# Altium footprint library Common-Parts-Library.PcbLib: 530 footprints (part 29 of 34)
Each footprint in its own frame and in the unit in brackets; x right, y up, seen from the top. Pads: shape width x height; smd on the part's side, far side on the other; paste and mask are expansions set on the pad; w line width, h text height; cw(c..) or ccw(c..) is an arc to the next point about the centre after c.
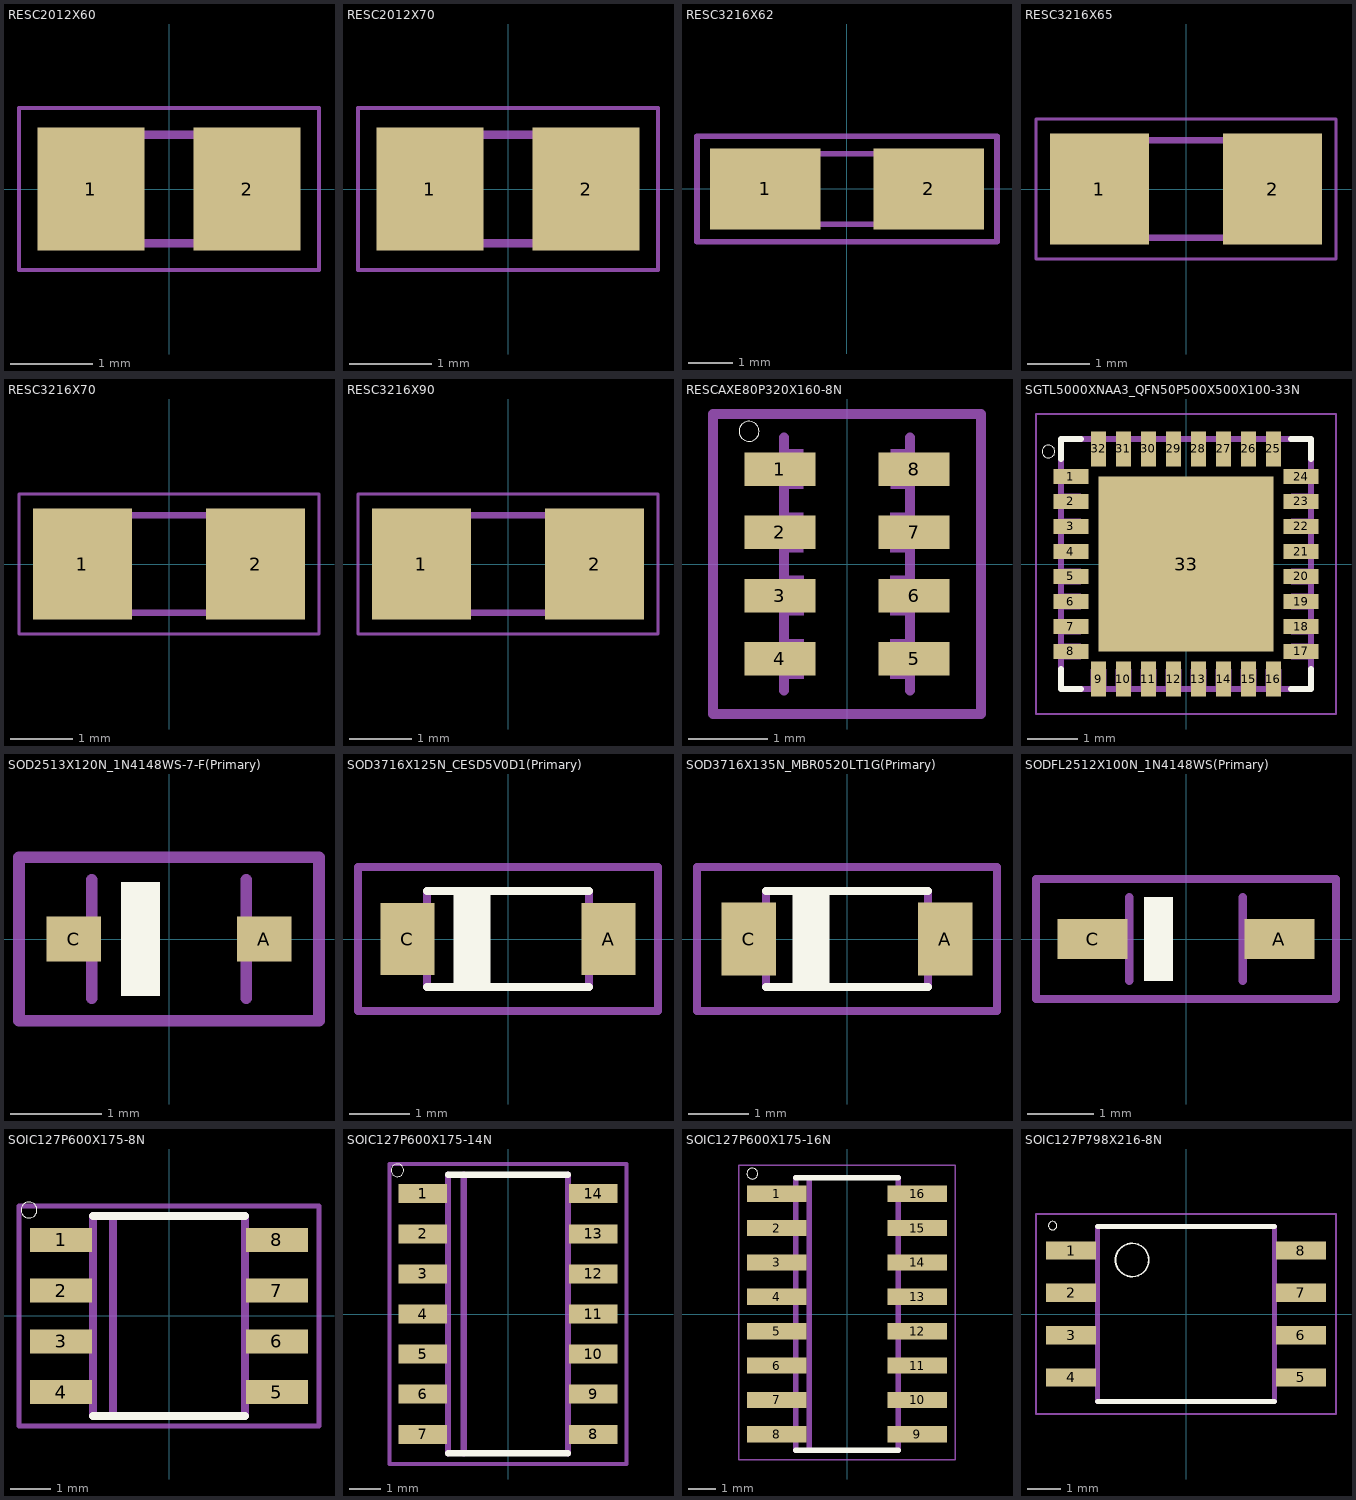
[diagram p28: the footprints below, top view; thin cyan lines are the x and y axes]

## RESC2012X60 [mm]
pads (2):
  rect 1.3x1.5 smd: 1(-0.95,0) 2(0.95,0)
Mechanical 1:
  region: 0.356,0.726 1.106,0.726 1.106,-0.725 0.356,-0.725
  region: -1.096,0.726 -0.342,0.726 -0.342,-0.726 -1.096,-0.726
  lines w0.051: -1.823,-0.983 -1.823,0.983 1.823,0.983 1.823,-0.983 -1.823,-0.983
  lines w0.102: -0.381,0.66 0.381,0.66 ; -0.356,-0.66 0.381,-0.66

## RESC2012X70 [mm]
pads (2):
  rect 1.3x1.5 smd: 1(-0.95,0) 2(0.95,0)
Mechanical 1:
  region: 0.356,0.726 1.106,0.726 1.106,-0.724 0.356,-0.724
  region: -1.096,0.726 -0.342,0.726 -0.342,-0.726 -1.096,-0.726
  lines w0.051: -1.823,-0.983 -1.823,0.983 1.823,0.983 1.823,-0.983 -1.823,-0.983
  lines w0.102: -0.381,0.66 0.381,0.66 ; -0.356,-0.66 0.381,-0.66

## RESC3216X62 [mm]
pads (2):
  rect 2.5x1.84 smd: 1(-1.85,0) 2(1.85,0)
Mechanical 1:
  region: 1.101,0.8 1.6,0.8 1.6,-0.801 1.101,-0.801
  region: -1.603,0.8 -1.1,0.8 -1.1,-0.802 -1.603,-0.802
  lines w0.127: -3.4,-1.2 -3.4,1.2 3.4,1.2 3.4,-1.2 -3.4,-1.2 ; -1.6,-0.8 -1.6,0.8 1.6,0.8 1.6,-0.8 -1.6,-0.8

## RESC3216X65 [mm]
pads (2):
  rect 1.6x1.8 smd: 1(-1.4,0) 2(1.4,0)
Mechanical 1:
  lines w0.051: -2.423,-1.133 -2.423,1.133 2.423,1.133 2.423,-1.133 -2.423,-1.133
  lines w0.102: -0.965,-0.787 0.965,-0.787 ; -0.965,0.787 0.965,0.787

## RESC3216X70 [mm]
pads (2):
  rect 1.6x1.8 smd: 1(-1.4,0) 2(1.4,0)
Mechanical 1:
  lines w0.051: -2.423,-1.133 -2.423,1.133 2.423,1.133 2.423,-1.133 -2.423,-1.133
  lines w0.102: -0.965,-0.787 0.965,-0.787 ; -0.965,0.787 0.965,0.787

## RESC3216X90 [mm]
pads (2):
  rect 1.6x1.8 smd: 1(-1.4,0) 2(1.4,0)
Mechanical 1:
  lines w0.051: -2.423,-1.133 -2.423,1.133 2.423,1.133 2.423,-1.133 -2.423,-1.133
  lines w0.102: -0.965,-0.787 0.965,-0.787 ; -0.965,0.787 0.965,0.787

## RESCAXE80P320X160-8N [mm]
pads (8):
  rect 0.9x0.425 smd: 1(-0.85,1.2) 2(-0.85,0.4) 3(-0.85,-0.4) 4(-0.85,-1.2) 5(0.85,-1.2) 6(0.85,-0.4) 7(0.85,0.4) 8(0.85,1.2)
Top Overlay:
  circle w0: c-1.24,1.68 r0.127
Mechanical 1:
  region: 0.552,0.952 0.552,1.451 0.849,1.451 0.849,0.952
  region: 0.551,0.151 0.551,0.65 0.85,0.65 0.85,0.151
  region: 0.55,-0.65 0.55,-0.152 0.852,-0.152 0.852,-0.65
  region: 0.549,-1.451 0.549,-0.951 0.851,-0.951 0.851,-1.451
  region: -0.55,-0.95 -0.55,-1.451 -0.851,-1.451 -0.851,-0.95
  region: -0.55,-0.15 -0.55,-0.652 -0.852,-0.652 -0.852,-0.15
  region: -0.552,0.652 -0.552,0.149 -0.851,0.149 -0.851,0.652
  region: -0.553,1.453 -0.553,0.95 -0.85,0.95 -0.85,1.453
  lines w0.127: -0.8,-1.6 -0.8,1.6 ; 0.8,-1.6 0.8,1.6 ; -1.7,-1.9 1.7,-1.9 1.7,1.9 -1.7,1.9 -1.7,-1.9

## SGTL5000XNAA3_QFN50P500X500X100-33N [mm]
pads (33):
  rect 0.7x0.3 smd: 1(-2.3,1.75) 2(-2.3,1.25) 3(-2.3,0.75) 4(-2.3,0.25) 5(-2.3,-0.25) 6(-2.3,-0.75) 7(-2.3,-1.25) 8(-2.3,-1.75) 17(2.3,-1.75) 18(2.3,-1.25) 19(2.3,-0.75) 20(2.3,-0.25) 21(2.3,0.25) 22(2.3,0.75) 23(2.3,1.25) 24(2.3,1.75)
  rect 0.3x0.7 smd: 9(-1.75,-2.3) 10(-1.25,-2.3) 11(-0.75,-2.3) 12(-0.25,-2.3) 13(0.25,-2.3) 14(0.75,-2.3) 15(1.25,-2.3) 16(1.75,-2.3) 25(1.75,2.3) 26(1.25,2.3) 27(0.75,2.3) 28(0.25,2.3) 29(-0.25,2.3) 30(-0.75,2.3) 31(-1.25,2.3) 32(-1.75,2.3)
  rect 3.5x3.5 smd: 33(0,0)
Top Overlay:
  circle w0: c-2.75,2.25 r0.127
  lines w0.127: -2.5,-2.1 -2.5,-2.5 -2.1,-2.5 ; -2.5,2.1 -2.5,2.5 -2.1,2.5 ; 2.1,-2.5 2.5,-2.5 2.5,-2.1 ; 2.1,2.5 2.5,2.5 2.5,2.1
Top Paste:
  region: -1.103,1.1 1.1,1.1 1.1,-1.103 -1.103,-1.103
Top Solder:
  region: -1.95,1.9 -1.95,2.704 -1.554,2.704 -1.554,1.9
  region: -1.449,1.901 -1.449,2.704 -1.054,2.704 -1.054,1.901
  region: -0.948,1.902 -0.948,2.706 -0.556,2.706 -0.556,1.902
  region: -0.449,1.901 -0.449,2.702 -0.052,2.702 -0.052,1.901
  region: 0.051,1.901 0.051,2.701 0.449,2.701 0.449,1.901
  region: 0.552,1.902 0.552,2.702 0.948,2.702 0.948,1.902
  region: 1.053,1.903 1.053,2.701 1.449,2.701 1.449,1.903
  region: 1.553,1.903 1.553,2.701 1.949,2.701 1.949,1.903
  region: 1.905,1.95 2.7,1.95 2.7,1.554 1.905,1.554
  region: 1.904,1.45 2.7,1.45 2.7,1.052 1.904,1.052
  region: 1.904,0.95 2.7,0.95 2.7,0.551 1.904,0.551
  region: 1.903,0.45 2.7,0.45 2.7,0.05 1.903,0.05
  region: 1.903,-0.05 2.7,-0.05 2.7,-0.451 1.903,-0.451
  region: 1.904,-0.55 2.7,-0.55 2.7,-0.952 1.904,-0.952
  region: 1.903,-1.05 2.7,-1.05 2.7,-1.452 1.903,-1.452
  region: 1.906,-1.55 2.7,-1.55 2.7,-1.956 1.906,-1.956
  region: -1.953,-2.703 -1.953,-1.9 -1.55,-1.9 -1.55,-2.703
  region: -1.453,-2.703 -1.453,-1.901 -1.049,-1.901 -1.049,-2.703
  region: -0.955,-2.705 -0.955,-1.902 -0.548,-1.902 -0.548,-2.705
  region: -0.45,-2.7 -0.45,-1.9 -0.05,-1.9 -0.05,-2.7
  region: 0.049,-2.701 0.049,-1.901 0.451,-1.901 0.451,-2.701
  region: 0.546,-2.704 0.546,-1.905 0.955,-1.905 0.955,-2.704
  region: 1.049,-2.701 1.049,-1.902 1.452,-1.902 1.452,-2.701
  region: 1.549,-2.701 1.549,-1.903 1.953,-1.903 1.953,-2.701
  region: -2.704,1.95 -1.9,1.95 -1.9,1.552 -2.704,1.552
  region: -2.708,1.45 -1.9,1.45 -1.9,1.053 -2.708,1.053
  region: -2.707,0.95 -1.9,0.95 -1.9,0.551 -2.707,0.551
  region: -2.702,0.45 -1.9,0.45 -1.9,0.05 -2.702,0.05
  region: -2.702,-0.05 -1.9,-0.05 -1.9,-0.45 -2.702,-0.45
  region: -2.708,-0.55 -1.9,-0.55 -1.9,-0.953 -2.708,-0.953
  region: -2.709,-1.05 -1.9,-1.05 -1.9,-1.455 -2.709,-1.455
  region: -2.703,-1.55 -1.9,-1.55 -1.9,-1.952 -2.703,-1.952
Mechanical 1:
  region: 1.603,2.103 1.603,2.5 1.9,2.5 1.9,2.103
  region: 1.103,2.103 1.103,2.501 1.399,2.501 1.399,2.103
  region: 0.604,2.104 0.604,2.502 0.898,2.502 0.898,2.104
  region: 0.102,2.102 0.102,2.502 0.398,2.502 0.398,2.102
  region: -0.399,2.101 -0.399,2.502 -0.102,2.502 -0.102,2.101
  region: -0.898,2.102 -0.898,2.506 -0.606,2.506 -0.606,2.102
  region: -1.399,2.101 -1.399,2.505 -1.105,2.505 -1.105,2.101
  region: -1.9,2.1 -1.9,2.503 -1.603,2.503 -1.603,2.1
  region: 2.104,-1.6 2.5,-1.6 2.5,-1.904 2.104,-1.904
  region: 2.106,-1.1 2.5,-1.1 2.5,-1.404 2.106,-1.404
  region: 2.104,-0.6 2.5,-0.6 2.5,-0.902 2.104,-0.902
  region: 2.102,-0.1 2.5,-0.1 2.5,-0.4 2.102,-0.4
  region: 2.103,0.4 2.5,0.4 2.5,0.1 2.103,0.1
  region: 2.104,0.9 2.5,0.9 2.5,0.601 2.104,0.601
  region: 2.105,1.4 2.5,1.4 2.5,1.102 2.105,1.102
  region: 2.104,1.9 2.5,1.9 2.5,1.603 2.104,1.603
  region: 1.598,-2.502 1.598,-2.107 1.907,-2.107 1.907,-2.502
  region: 1.098,-2.502 1.098,-2.104 1.404,-2.104 1.404,-2.502
  region: 0.598,-2.502 0.598,-2.104 0.904,-2.104 0.904,-2.502
  region: 0.096,-2.504 0.096,-2.104 0.404,-2.104 0.404,-2.504
  region: -0.403,-2.503 -0.403,-2.102 -0.098,-2.102 -0.098,-2.503
  region: -0.902,-2.502 -0.902,-2.101 -0.599,-2.101 -0.599,-2.502
  region: -1.406,-2.506 -1.406,-2.102 -1.098,-2.102 -1.098,-2.506
  region: -1.905,-2.505 -1.905,-2.101 -1.599,-2.101 -1.599,-2.505
  region: -2.506,-1.6 -2.1,-1.6 -2.1,-1.905 -2.506,-1.905
  region: -2.503,-1.1 -2.1,-1.1 -2.1,-1.402 -2.503,-1.402
  region: -2.502,-0.6 -2.1,-0.6 -2.1,-0.901 -2.502,-0.901
  region: -2.503,-0.1 -2.1,-0.1 -2.1,-0.4 -2.503,-0.4
  region: -2.505,0.4 -2.1,0.4 -2.1,0.1 -2.505,0.1
  region: -2.508,0.9 -2.1,0.9 -2.1,0.602 -2.508,0.602
  region: -2.502,1.4 -2.1,1.4 -2.1,1.101 -2.502,1.101
  region: -2.503,1.9 -2.1,1.9 -2.1,1.602 -2.503,1.602
  lines w0.05: -3,-3 -3,3 3,3 3,-3 -3,-3
  lines w0.127: -2.499,-2.149 -2.499,2.151 ; -2.149,-2.499 2.151,-2.499 ; -2.149,2.501 2.151,2.501 ; 2.501,-2.149 2.501,2.151

## SOD2513X120N_1N4148WS-7-F(Primary) [mm]
pads (2):
  rect 0.6x0.5 smd: A(1.05,0) C(-1.05,0)
Top Overlay:
  region: -0.526,0.625 -0.1,0.625 -0.1,-0.626 -0.526,-0.626
Mechanical 1:
  lines w0.127: -0.85,-0.65 -0.85,0.65 ; 0.85,-0.65 0.85,0.65 ; -1.65,-0.9 1.65,-0.9 1.65,0.9 -1.65,0.9 -1.65,-0.9

## SOD3716X125N_CESD5V0D1(Primary) [mm]
pads (2):
  rect 0.9x1.2 smd: A(1.675,0) C(-1.675,0)
Top Overlay:
  region: -0.903,0.8 -0.3,0.8 -0.3,-0.803 -0.903,-0.803
  lines w0.127: -1.35,-0.8 1.35,-0.8 ; -1.35,0.8 1.35,0.8
Mechanical 1:
  lines w0.127: -1.35,-0.8 -1.35,0.8 ; 1.35,-0.8 1.35,0.8 ; -2.5,-1.2 2.5,-1.2 2.5,1.2 -2.5,1.2 -2.5,-1.2

## SOD3716X135N_MBR0520LT1G(Primary) [mm]
pads (2):
  rect 0.91x1.22 smd: A(1.635,0) C(-1.635,0)
Top Overlay:
  region: -0.901,0.8 -0.3,0.8 -0.3,-0.801 -0.901,-0.801
  lines w0.127: -1.35,-0.8 1.35,-0.8 ; -1.35,0.8 1.35,0.8
Mechanical 1:
  lines w0.127: -1.35,-0.8 -1.35,0.8 ; 1.35,-0.8 1.35,0.8 ; -2.5,-1.2 2.5,-1.2 2.5,1.2 -2.5,1.2 -2.5,-1.2

## SODFL2512X100N_1N4148WS(Primary) [mm]
pads (2):
  rect 1.05x0.6 smd: A(1.4,0) C(-1.4,0)
Top Overlay:
  region: -0.625,0.625 -0.2,0.625 -0.2,-0.625 -0.625,-0.625
Mechanical 1:
  lines w0.127: -0.85,-0.625 -0.85,0.625 ; 0.85,-0.625 0.85,0.625 ; -2.25,-0.9 2.25,-0.9 2.25,0.9 -2.25,0.9 -2.25,-0.9

## SOIC127P600X175-8N [mm]
pads (8):
  rect 1.55x0.6 smd: 1(-2.7,1.905) 2(-2.7,0.635) 3(-2.7,-0.635) 4(-2.7,-1.905) 5(2.7,-1.905) 6(2.7,-0.635) 7(2.7,0.635) 8(2.7,1.905)
Top Overlay:
  circle w0: c-3.5,2.65 r0.2
  lines w0.203: -1.9,-2.5 1.9,-2.5 ; -1.9,2.5 1.9,2.5
Mechanical 1:
  region: 3.101,2.149 3.101,1.665 2.005,1.665 2.005,2.149
  region: 3.102,0.878 3.102,0.392 2.002,0.392 2.002,0.878
  region: 3.104,-0.393 3.104,-0.879 2.001,-0.879 2.001,-0.393
  region: 3.105,-1.665 3.105,-2.15 2,-2.15 2,-1.665
  region: -2,-1.66 -2,-2.156 -3.106,-2.156 -3.106,-1.66
  region: -2.001,-0.389 -2.001,-0.884 -3.104,-0.884 -3.104,-0.389
  region: -2.003,0.883 -2.003,0.387 -3.103,0.387 -3.103,0.883
  region: -2.001,2.151 -2.001,1.659 -3.101,1.659 -3.101,2.151
  lines w0.127: -3.75,-2.75 -3.75,2.75 3.75,2.75 3.75,-2.75 -3.75,-2.75
  lines w0.203: -1.9,-2.5 -1.9,2.5 ; -1.4,-2.5 -1.4,2.5 ; 1.9,-2.5 1.9,2.5

## SOIC127P600X175-14N [mm]
pads (14):
  rect 1.55x0.6 smd: 1(-2.7,3.81) 2(-2.7,2.54) 3(-2.7,1.27) 4(-2.7,0) 5(-2.7,-1.27) 6(-2.7,-2.54) 7(-2.7,-3.81) 8(2.7,-3.81) 9(2.7,-2.54) 10(2.7,-1.27) 11(2.7,0) 12(2.7,1.27) 13(2.7,2.54) 14(2.7,3.81)
Top Overlay:
  circle w0: c-3.5,4.55 r0.2
  lines w0.203: -1.9,-4.405 1.9,-4.405 ; -1.9,4.405 1.9,4.405
Mechanical 1:
  region: 3.103,-1.027 3.103,-1.515 2,-1.515 2,-1.027
  region: 3.102,-2.297 3.102,-2.785 2,-2.785 2,-2.297
  region: 3.111,-3.576 3.111,-4.058 1.997,-4.058 1.997,-3.576
  region: -2,-3.565 -2,-4.057 -3.102,-4.057 -3.102,-3.565
  region: -2,-2.295 -2,-2.794 -3.109,-2.794 -3.109,-2.295
  region: -2,-1.024 -2,-1.517 -3.102,-1.517 -3.102,-1.024
  region: 3.099,4.056 3.099,3.57 2.005,3.57 2.005,4.056
  region: 3.1,2.785 3.1,2.297 2.002,2.297 2.002,2.785
  region: 3.102,1.514 3.102,1.028 2.003,1.028 2.003,1.514
  region: 3.102,0.243 3.102,-0.244 2.001,-0.244 2.001,0.243
  region: -2.004,0.249 -2.004,-0.25 -3.105,-0.25 -3.105,0.249
  region: -2.006,1.521 -2.006,1.021 -3.104,1.021 -3.104,1.521
  region: -2.001,2.786 -2.001,2.295 -3.1,2.295 -3.1,2.786
  region: -2.004,4.059 -2.004,3.565 -3.1,3.565 -3.1,4.059
  lines w0.127: -3.75,-4.75 -3.75,4.75 3.75,4.75 3.75,-4.75 -3.75,-4.75
  lines w0.203: -1.9,-4.405 -1.9,4.405 ; -1.4,-4.405 -1.4,4.405 ; 1.9,-4.405 1.9,4.405

## SOIC127P600X175-16N [mm]
pads (16):
  rect 2.2x0.6 smd: 1(-2.6,4.445) 2(-2.6,3.175) 3(-2.6,1.905) 4(-2.6,0.635) 5(-2.6,-0.635) 6(-2.6,-1.905) 7(-2.6,-3.175) 8(-2.6,-4.445) 9(2.6,-4.445) 10(2.6,-3.175) 11(2.6,-1.905) 12(2.6,-0.635) 13(2.6,0.635) 14(2.6,1.905) 15(2.6,3.175) 16(2.6,4.445)
Top Overlay:
  circle w0: c-3.5,5.19 r0.2
  lines w0.203: -1.9,-5.04 1.9,-5.04 ; -1.9,5.04 1.9,5.04
Mechanical 1:
  region: 3.098,4.692 3.098,4.207 2.008,4.207 2.008,4.692
  region: 3.1,3.42 3.1,2.933 2.003,2.933 2.003,3.42
  region: 3.105,-2.935 3.105,-3.421 1.999,-3.421 1.999,-2.935
  region: 3.107,-4.207 3.107,-4.693 1.997,-4.693 1.997,-4.207
  region: -1.998,-4.202 -1.998,-4.696 -3.106,-4.696 -3.106,-4.202
  region: -1.998,-2.932 -1.998,-3.432 -3.112,-3.432 -3.112,-2.932
  region: -2,-1.659 -2,-2.157 -3.107,-2.157 -3.107,-1.659
  region: -2.001,-0.389 -2.001,-0.883 -3.103,-0.883 -3.103,-0.389
  region: 3.101,2.149 3.101,1.665 2.005,1.665 2.005,2.149
  region: 3.103,0.878 3.103,0.392 2.003,0.392 2.003,0.878
  region: 3.103,-0.393 3.103,-0.879 2.001,-0.879 2.001,-0.393
  region: 3.104,-1.664 3.104,-2.15 2,-2.15 2,-1.664
  region: -2.002,0.882 -2.002,0.388 -3.102,0.388 -3.102,0.882
  region: -2.003,2.153 -2.003,1.659 -3.101,1.659 -3.101,2.153
  region: -2.005,3.425 -2.005,2.93 -3.1,2.93 -3.1,3.425
  region: -2.007,4.697 -2.007,4.201 -3.099,4.201 -3.099,4.697
  lines w0.05: -4,-5.39 -4,5.49 4,5.49 4,-5.39 -4,-5.39
  lines w0.203: -1.9,-5.04 -1.9,5.04 ; -1.4,-5.04 -1.4,5.04 ; 1.9,-5.04 1.9,5.04

## SOIC127P798X216-8N [mm]
pads (8):
  rect 1.5x0.55 smd: 1(-3.45,1.905) 2(-3.45,0.635) 3(-3.45,-0.635) 4(-3.45,-1.905) 5(3.45,-1.905) 6(3.45,-0.635) 7(3.45,0.635) 8(3.45,1.905)
Top Overlay:
  circle w0: c-4,2.65 r0.127
  circle w0.051: c-1.615,1.62 r0.5
  lines w0.152: -2.65,-2.625 2.65,-2.625 ; -2.65,2.625 2.65,2.625
Mechanical 1:
  region: 2.655,-1.705 4,-1.705 4,-2.109 2.655,-2.109
  region: 2.65,-0.435 4,-0.435 4,-0.835 2.65,-0.835
  region: 2.655,0.835 4,0.835 4,0.436 2.655,0.436
  region: 2.659,2.105 4,2.105 4,1.711 2.659,1.711
  region: -4.005,-1.705 -2.65,-1.705 -2.65,-2.108 -4.005,-2.108
  region: -4.007,-0.435 -2.65,-0.435 -2.65,-0.836 -4.007,-0.836
  region: -4.01,0.835 -2.65,0.835 -2.65,0.436 -4.01,0.436
  region: -4.007,2.105 -2.65,2.105 -2.65,1.708 -4.007,1.708
  lines w0.05: -4.5,-3 4.5,-3 4.5,3 -4.5,3 -4.5,-3
  lines w0.152: -2.65,-2.625 -2.65,2.625 ; 2.65,-2.625 2.65,2.625